# Altium integrated library Linear Technology Power Management LDO Linear Regulators.IntLib: 2339 symbols (part 27 of 131)
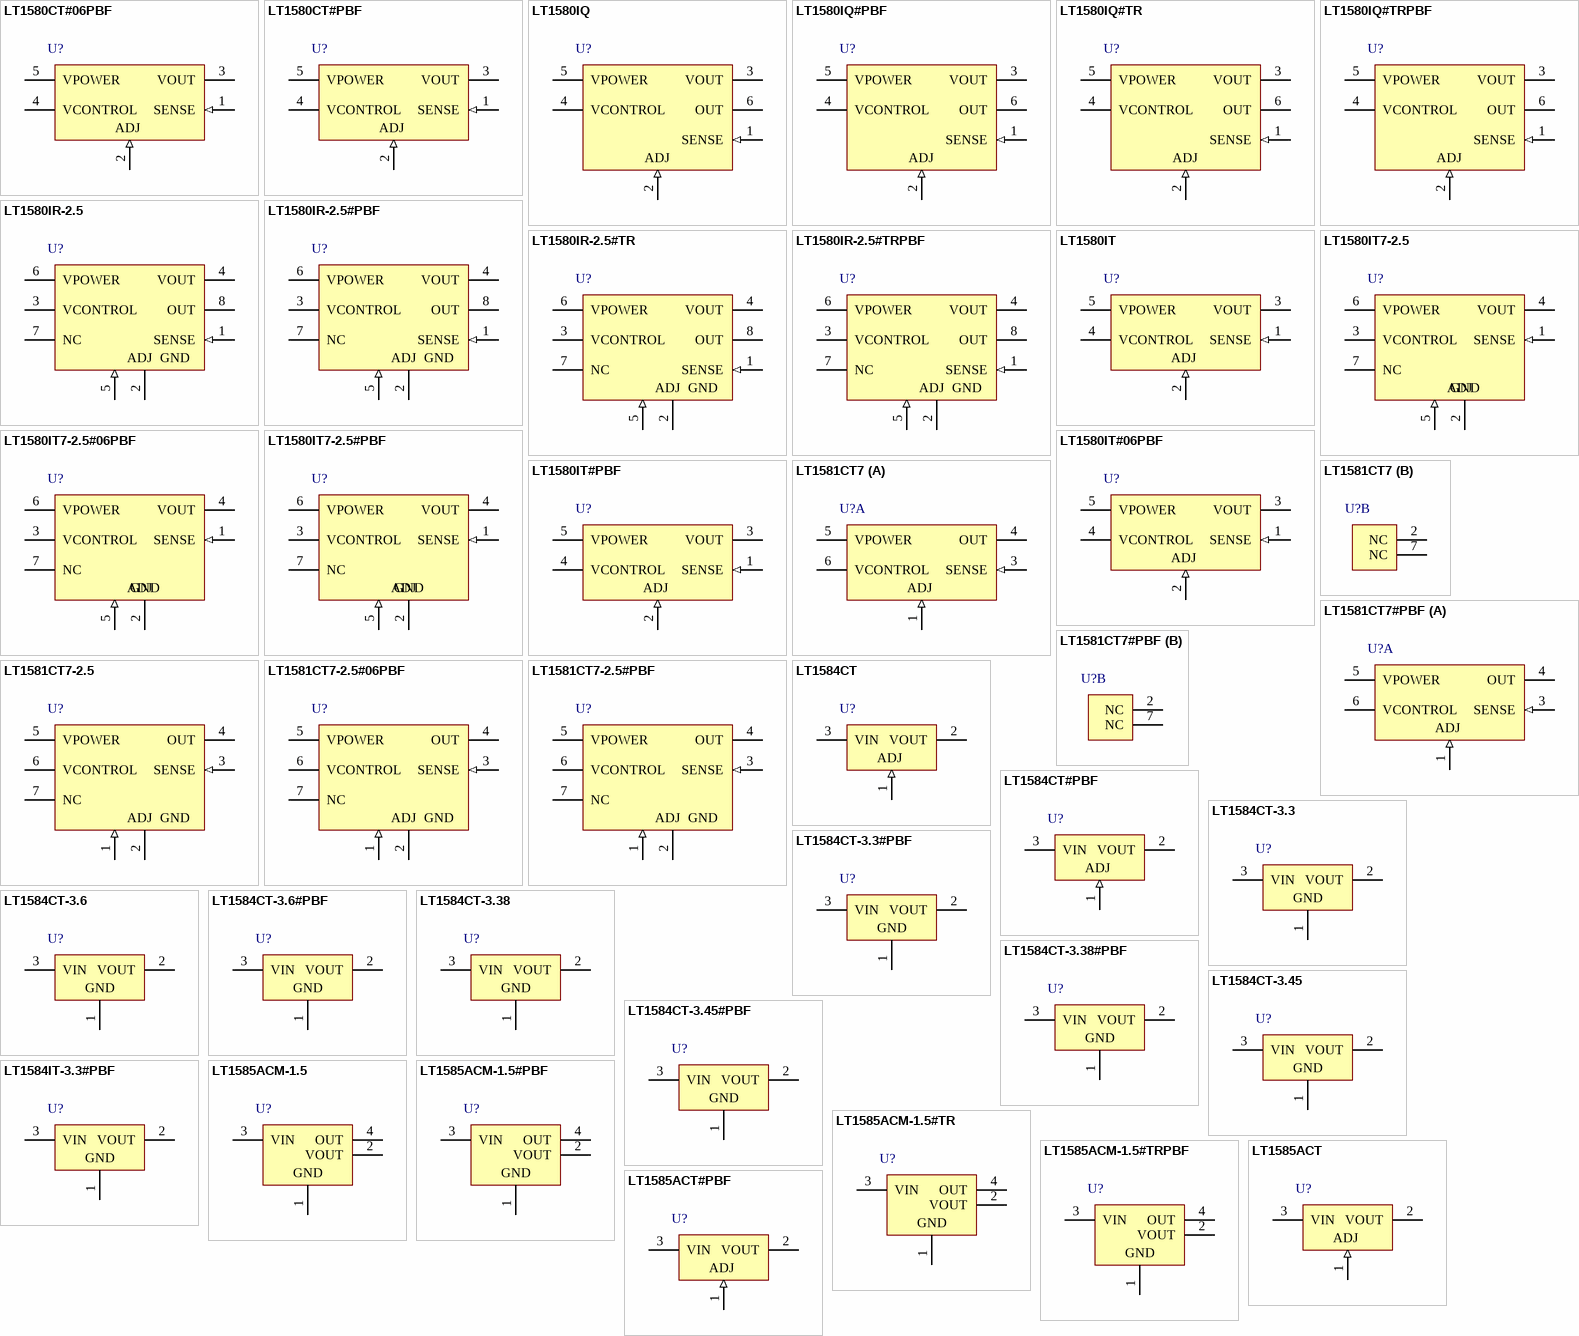
[diagram p95: symbols LT1580CT#06PBF to LT1585ACT#PBF]

## LT1580CT#PBF
designator U?
7 A, Very Low Dropout Regulator, 1.79 to 6 V Vin, Adjustable Vout, 5-pin FM (T-5), 0 to 150 degC, Pb-Free; Manufacturer: Linear Technology; PartNumber: LT1580CT#PBF; Discrete Pass Element: no; Dropout Voltage(V): 0.54; Iout(mA): 7000; Isupply(mA): 10; Number of Outputs: 1; Output Voltage: Adj; Vin Max(V): 6; Vin Min(V): 1.79; Vout Max(V): 4.65; Vout Min(V): 1.25; DatasheetVersion: Rev. A; PackageVersion: Aug-10; PackageReference: T-5; PackageDescription: 5-Pin Plastic TO-220 (Standard), Body 10.224 x 8.89 mm, Pitch 1.7 mm; Supplier 1: Digi-Key; Supplier Part Number 1: LT1580CT#PBF-ND; RoHS: TRUE; Mounting Technology: Through Hole; ComponentLink1Description: Manufacturer URL; ComponentLink1URL: http://www.linear.com/; ComponentLink2Description: Datasheet; ComponentLink2URL: http://cds.linear.com/docs/en/datasheet/158025fas.pdf; ComponentLink3Description: Package Specification; ComponentLink3URL: http://cds.linear.com/docs/en/packaging/TO-220_5_05-08-1421.pdf
footprint LT-T-5-S (FM, 5-Leads, Body 10.2235x4.3815mm, Pitch 1.7mm)
pins: 1 SENSE (in) "This pin is the positive side of the reference voltage for the device. With this pin it is possible to Kelvin sense the output voltage at the load.", 2 ADJ (in) "This pin is the negative side of the reference voltage for the device. Transient response can be improved by adding a small bypass capacitor from the ADJ pin to ground. For fixed voltage devices the ADJ pin is also brought (See Datasheet)", 3 VOUT (power) "This is the power output of the device.", 4 VCONTROL (power) "This pin is the supply pin for the control circuitry of the device. The current flow into this pin will be about 1% of the output current. For the device to regulate, the voltage at this pin must be between 1.0V and 1.3V (See Datasheet)", 5 VPOWER (power) "This is the collector to the power device of the LT1580. The output load current is supplied through this pin. For the device to regulate, the voltage at this pin must be between 0.1V and 0.8V greater than the output voltage (See Datasheet)"

## LT1580IQ
designator U?
7 A, Very Low Dropout Regulator, 1.79 to 6 V Vin, Adjustable Vout, 5-pin DPAK (Q-5), -40 to 150 degC; Manufacturer: Linear Technology; PartNumber: LT1580IQ; Discrete Pass Element: no; Dropout Voltage(V): 0.54; Iout(mA): 7000; Isupply(mA): 10; Number of Outputs: 1; Output Voltage: Adj; Vin Max(V): 6; Vin Min(V): 1.79; Vout Max(V): 4.65; Vout Min(V): 1.25; DatasheetVersion: Rev. A; PackageVersion: Rev. F, 09/2011; PackageReference: Q-5; PackageDescription: 5-Pin Plastic DD Pak, Body 10.2235 x 8.89 mm, Pitch 1.702 mm; Supplier 1: Digi-Key; Supplier Part Number 1: LT1580IQ-ND; Supplier 2: Newark; Supplier Part Number 2: 57M5068; RoHS: FALSE; Mounting Technology: Surface Mount; ComponentLink1Description: Manufacturer URL; ComponentLink1URL: http://www.linear.com/; ComponentLink2Description: Datasheet; ComponentLink2URL: http://cds.linear.com/docs/en/datasheet/158025fas.pdf; ComponentLink3Description: Package Specification; ComponentLink3URL: http://cds.linear.com/docs/en/packaging/Q%20DD5%2005-08-1461%20Rev%20F.pdf
footprint LT-Q-5_N (DPAK, 5-Leads, Body 10.22x8.89mm, Pitch 1.702mm, IPC Medium Density)
footprint LT-Q-5_L (DPAK, 5-Leads, Body 10.22x8.89mm, Pitch 1.702mm, IPC High Density)
footprint LT-Q-5_M (DPAK, 5-Leads, Body 10.22x8.89mm, Pitch 1.702mm, IPC Low Density)
pins: 1 SENSE (in) "This pin is the positive side of the reference voltage for the device. With this pin it is possible to Kelvin sense the output voltage at the load.", 2 ADJ (in) "This pin is the negative side of the reference voltage for the device. Transient response can be improved by adding a small bypass capacitor from the ADJ pin to ground. For fixed voltage devices the ADJ pin is also brought (See Datasheet)", 3 VOUT (power) "This is the power output of the device.", 4 VCONTROL (power) "This pin is the supply pin for the control circuitry of the device. The current flow into this pin will be about 1% of the output current. For the device to regulate, the voltage at this pin must be between 1.0V and 1.3V (See Datasheet)", 5 VPOWER (power) "This is the collector to the power device of the LT1580. The output load current is supplied through this pin. For the device to regulate, the voltage at this pin must be between 0.1V and 0.8V greater than the output voltage (See Datasheet)", 6 OUT (power)

## LT1580IQ#PBF
designator U?
7 A, Very Low Dropout Regulator, 1.79 to 6 V Vin, Adjustable Vout, 5-pin DPAK (Q-5), -40 to 150 degC, Pb-Free; Manufacturer: Linear Technology; PartNumber: LT1580IQ#PBF; Discrete Pass Element: no; Dropout Voltage(V): 0.54; Iout(mA): 7000; Isupply(mA): 10; Number of Outputs: 1; Output Voltage: Adj; Vin Max(V): 6; Vin Min(V): 1.79; Vout Max(V): 4.65; Vout Min(V): 1.25; DatasheetVersion: Rev. A; PackageVersion: Rev. F, 09/2011; PackageReference: Q-5; PackageDescription: 5-Pin Plastic DD Pak, Body 10.2235 x 8.89 mm, Pitch 1.702 mm; Supplier 1: Digi-Key; Supplier Part Number 1: LT1580IQ#PBF-ND; Supplier 2: Newark; Supplier Part Number 2: 57M5069; RoHS: TRUE; Mounting Technology: Surface Mount; ComponentLink1Description: Manufacturer URL; ComponentLink1URL: http://www.linear.com/; ComponentLink2Description: Datasheet; ComponentLink2URL: http://cds.linear.com/docs/en/datasheet/158025fas.pdf; ComponentLink3Description: Package Specification; ComponentLink3URL: http://cds.linear.com/docs/en/packaging/Q%20DD5%2005-08-1461%20Rev%20F.pdf
footprint LT-Q-5_N (DPAK, 5-Leads, Body 10.22x8.89mm, Pitch 1.702mm, IPC Medium Density)
footprint LT-Q-5_L (DPAK, 5-Leads, Body 10.22x8.89mm, Pitch 1.702mm, IPC High Density)
footprint LT-Q-5_M (DPAK, 5-Leads, Body 10.22x8.89mm, Pitch 1.702mm, IPC Low Density)
pins: 1 SENSE (in) "This pin is the positive side of the reference voltage for the device. With this pin it is possible to Kelvin sense the output voltage at the load.", 2 ADJ (in) "This pin is the negative side of the reference voltage for the device. Transient response can be improved by adding a small bypass capacitor from the ADJ pin to ground. For fixed voltage devices the ADJ pin is also brought (See Datasheet)", 3 VOUT (power) "This is the power output of the device.", 4 VCONTROL (power) "This pin is the supply pin for the control circuitry of the device. The current flow into this pin will be about 1% of the output current. For the device to regulate, the voltage at this pin must be between 1.0V and 1.3V (See Datasheet)", 5 VPOWER (power) "This is the collector to the power device of the LT1580. The output load current is supplied through this pin. For the device to regulate, the voltage at this pin must be between 0.1V and 0.8V greater than the output voltage (See Datasheet)", 6 OUT (power)

## LT1580IQ#TR
designator U?
7 A, Very Low Dropout Regulator, 1.79 to 6 V Vin, Adjustable Vout, 5-pin DPAK (Q-5), -40 to 150 degC, Tape and Reel; Manufacturer: Linear Technology; PartNumber: LT1580IQ#TR; Discrete Pass Element: no; Dropout Voltage(V): 0.54; Iout(mA): 7000; Isupply(mA): 10; Number of Outputs: 1; Output Voltage: Adj; Vin Max(V): 6; Vin Min(V): 1.79; Vout Max(V): 4.65; Vout Min(V): 1.25; DatasheetVersion: Rev. A; PackageVersion: Rev. F, 09/2011; PackageReference: Q-5; PackageDescription: 5-Pin Plastic DD Pak, Body 10.2235 x 8.89 mm, Pitch 1.702 mm; Supplier 1: Digi-Key; Supplier Part Number 1: LT1580IQ#TR-ND; Packing: Tape and Reel; RoHS: FALSE; Mounting Technology: Surface Mount; ComponentLink1Description: Manufacturer URL; ComponentLink1URL: http://www.linear.com/; ComponentLink2Description: Datasheet; ComponentLink2URL: http://cds.linear.com/docs/en/datasheet/158025fas.pdf; ComponentLink3Description: Package Specification; ComponentLink3URL: http://cds.linear.com/docs/en/packaging/Q%20DD5%2005-08-1461%20Rev%20F.pdf
footprint LT-Q-5_N (DPAK, 5-Leads, Body 10.22x8.89mm, Pitch 1.702mm, IPC Medium Density)
footprint LT-Q-5_L (DPAK, 5-Leads, Body 10.22x8.89mm, Pitch 1.702mm, IPC High Density)
footprint LT-Q-5_M (DPAK, 5-Leads, Body 10.22x8.89mm, Pitch 1.702mm, IPC Low Density)
pins: 1 SENSE (in) "This pin is the positive side of the reference voltage for the device. With this pin it is possible to Kelvin sense the output voltage at the load.", 2 ADJ (in) "This pin is the negative side of the reference voltage for the device. Transient response can be improved by adding a small bypass capacitor from the ADJ pin to ground. For fixed voltage devices the ADJ pin is also brought (See Datasheet)", 3 VOUT (power) "This is the power output of the device.", 4 VCONTROL (power) "This pin is the supply pin for the control circuitry of the device. The current flow into this pin will be about 1% of the output current. For the device to regulate, the voltage at this pin must be between 1.0V and 1.3V (See Datasheet)", 5 VPOWER (power) "This is the collector to the power device of the LT1580. The output load current is supplied through this pin. For the device to regulate, the voltage at this pin must be between 0.1V and 0.8V greater than the output voltage (See Datasheet)", 6 OUT (power)

## LT1580IQ#TRPBF
designator U?
7 A, Very Low Dropout Regulator, 1.79 to 6 V Vin, Adjustable Vout, 5-pin DPAK (Q-5), -40 to 150 degC, Pb-Free, Tape and Reel; Manufacturer: Linear Technology; PartNumber: LT1580IQ#TRPBF; Discrete Pass Element: no; Dropout Voltage(V): 0.54; Iout(mA): 7000; Isupply(mA): 10; Number of Outputs: 1; Output Voltage: Adj; Vin Max(V): 6; Vin Min(V): 1.79; Vout Max(V): 4.65; Vout Min(V): 1.25; DatasheetVersion: Rev. A; PackageVersion: Rev. F, 09/2011; PackageReference: Q-5; PackageDescription: 5-Pin Plastic DD Pak, Body 10.2235 x 8.89 mm, Pitch 1.702 mm; Supplier 1: Digi-Key; Supplier Part Number 1: LT1580IQ#TRPBF-ND; Packing: Tape and Reel; RoHS: TRUE; Mounting Technology: Surface Mount; ComponentLink1Description: Manufacturer URL; ComponentLink1URL: http://www.linear.com/; ComponentLink2Description: Datasheet; ComponentLink2URL: http://cds.linear.com/docs/en/datasheet/158025fas.pdf; ComponentLink3Description: Package Specification; ComponentLink3URL: http://cds.linear.com/docs/en/packaging/Q%20DD5%2005-08-1461%20Rev%20F.pdf
footprint LT-Q-5_N (DPAK, 5-Leads, Body 10.22x8.89mm, Pitch 1.702mm, IPC Medium Density)
footprint LT-Q-5_L (DPAK, 5-Leads, Body 10.22x8.89mm, Pitch 1.702mm, IPC High Density)
footprint LT-Q-5_M (DPAK, 5-Leads, Body 10.22x8.89mm, Pitch 1.702mm, IPC Low Density)
pins: 1 SENSE (in) "This pin is the positive side of the reference voltage for the device. With this pin it is possible to Kelvin sense the output voltage at the load.", 2 ADJ (in) "This pin is the negative side of the reference voltage for the device. Transient response can be improved by adding a small bypass capacitor from the ADJ pin to ground. For fixed voltage devices the ADJ pin is also brought (See Datasheet)", 3 VOUT (power) "This is the power output of the device.", 4 VCONTROL (power) "This pin is the supply pin for the control circuitry of the device. The current flow into this pin will be about 1% of the output current. For the device to regulate, the voltage at this pin must be between 1.0V and 1.3V (See Datasheet)", 5 VPOWER (power) "This is the collector to the power device of the LT1580. The output load current is supplied through this pin. For the device to regulate, the voltage at this pin must be between 0.1V and 0.8V greater than the output voltage (See Datasheet)", 6 OUT (power)

## LT1580IR-2.5
designator U?
7 A, Very Low Dropout Regulator, 1.79 to 6 V Vin, 2.5 V Vout, 7-pin DPAK (R-7), -40 to 150 degC; Manufacturer: Linear Technology; PartNumber: LT1580IR-2.5; Discrete Pass Element: no; Dropout Voltage(V): 0.54; Iout(mA): 7000; Isupply(mA): 10; Number of Outputs: 1; Output Voltage: 2.5 V; Vin Max(V): 6; Vin Min(V): 1.79; DatasheetVersion: Rev. A; PackageVersion: Rev. F, 05/2012; PackageReference: R-7; PackageDescription: 7-Pin Plastic DD Pak, Body 10.2235 x 8.89 mm, Pitch 1.27 mm; Supplier 1: Digi-Key; Supplier Part Number 1: LT1580IR-2.5-ND; Supplier 2: Newark; Supplier Part Number 2: 57M5072; RoHS: FALSE; Mounting Technology: Surface Mount; ComponentLink1Description: Manufacturer URL; ComponentLink1URL: http://www.linear.com/; ComponentLink2Description: Datasheet; ComponentLink2URL: http://cds.linear.com/docs/en/datasheet/158025fas.pdf; ComponentLink3Description: Package Specification; ComponentLink3URL: http://cds.linear.com/docs/en/packaging/05081462_F_R.pdf
footprint LT-R-7_N (DPAK, 7-Leads, Body 10.224x8.89mm, Pitch 1.27mm, IPC Medium Density)
footprint LT-R-7_L (DPAK, 7-Leads, Body 10.224x8.89mm, Pitch 1.27mm, IPC High Density)
footprint LT-R-7_M (DPAK, 7-Leads, Body 10.224x8.89mm, Pitch 1.27mm, IPC Low Density)
pins: 1 SENSE (in) "This pin is the positive side of the reference voltage for the device. With this pin it is possible to Kelvin sense the output voltage at the load.", 2 GND (power) "For fixed voltage devices this is the bottom of the resistor divider that sets the output voltage.", 3 VCONTROL (power) "This pin is the supply pin for the control circuitry of the device. The current flow into this pin will be about 1% of the output current. For the device to regulate, the voltage at this pin must be between 1.0V and 1.3V (See Datasheet)", 4 VOUT (power) "This is the power output of the device.", 5 ADJ (in) "This pin is the negative side of the reference voltage for the device. Transient response can be improved by adding a small bypass capacitor from the ADJ pin to ground. For fixed voltage devices the ADJ pin is also brought (See Datasheet)", 6 VPOWER (power) "This is the collector to the power device of the LT1580. The output load current is supplied through this pin. For the device to regulate, the voltage at this pin must be between 0.1V and 0.8V greater than the output voltage (See Datasheet)", 7 NC, 8 OUT (power)

## LT1580IR-2.5#PBF
designator U?
7 A, Very Low Dropout Regulator, 1.79 to 6 V Vin, 2.5 V Vout, 7-pin DPAK (R-7), -40 to 150 degC, Pb-Free; Manufacturer: Linear Technology; PartNumber: LT1580IR-2.5#PBF; Discrete Pass Element: no; Dropout Voltage(V): 0.54; Iout(mA): 7000; Isupply(mA): 10; Number of Outputs: 1; Output Voltage: 2.5 V; Vin Max(V): 6; Vin Min(V): 1.79; DatasheetVersion: Rev. A; PackageVersion: Rev. F, 05/2012; PackageReference: R-7; PackageDescription: 7-Pin Plastic DD Pak, Body 10.2235 x 8.89 mm, Pitch 1.27 mm; Supplier 1: Digi-Key; Supplier Part Number 1: LT1580IR-2.5#PBF-ND; Supplier 2: Farnell; Supplier Part Number 2: 2252782; Supplier 3: Newark; Supplier Part Number 3: 57M5073; RoHS: TRUE; Mounting Technology: Surface Mount; ComponentLink1Description: Manufacturer URL; ComponentLink1URL: http://www.linear.com/; ComponentLink2Description: Datasheet; ComponentLink2URL: http://cds.linear.com/docs/en/datasheet/158025fas.pdf; ComponentLink3Description: Package Specification; ComponentLink3URL: http://cds.linear.com/docs/en/packaging/05081462_F_R.pdf
footprint LT-R-7_N (DPAK, 7-Leads, Body 10.224x8.89mm, Pitch 1.27mm, IPC Medium Density)
footprint LT-R-7_L (DPAK, 7-Leads, Body 10.224x8.89mm, Pitch 1.27mm, IPC High Density)
footprint LT-R-7_M (DPAK, 7-Leads, Body 10.224x8.89mm, Pitch 1.27mm, IPC Low Density)
pins: 1 SENSE (in) "This pin is the positive side of the reference voltage for the device. With this pin it is possible to Kelvin sense the output voltage at the load.", 2 GND (power) "For fixed voltage devices this is the bottom of the resistor divider that sets the output voltage.", 3 VCONTROL (power) "This pin is the supply pin for the control circuitry of the device. The current flow into this pin will be about 1% of the output current. For the device to regulate, the voltage at this pin must be between 1.0V and 1.3V (See Datasheet)", 4 VOUT (power) "This is the power output of the device.", 5 ADJ (in) "This pin is the negative side of the reference voltage for the device. Transient response can be improved by adding a small bypass capacitor from the ADJ pin to ground. For fixed voltage devices the ADJ pin is also brought (See Datasheet)", 6 VPOWER (power) "This is the collector to the power device of the LT1580. The output load current is supplied through this pin. For the device to regulate, the voltage at this pin must be between 0.1V and 0.8V greater than the output voltage (See Datasheet)", 7 NC, 8 OUT (power)

## LT1580IR-2.5#TR
designator U?
7 A, Very Low Dropout Regulator, 1.79 to 6 V Vin, 2.5 V Vout, 7-pin DPAK (R-7), -40 to 150 degC, Tape and Reel; Manufacturer: Linear Technology; PartNumber: LT1580IR-2.5#TR; Discrete Pass Element: no; Dropout Voltage(V): 0.54; Iout(mA): 7000; Isupply(mA): 10; Number of Outputs: 1; Output Voltage: 2.5 V; Vin Max(V): 6; Vin Min(V): 1.79; DatasheetVersion: Rev. A; PackageVersion: Rev. F, 05/2012; PackageReference: R-7; PackageDescription: 7-Pin Plastic DD Pak, Body 10.2235 x 8.89 mm, Pitch 1.27 mm; Supplier 1: Digi-Key; Supplier Part Number 1: LT1580IR-2.5#TR-ND; Packing: Tape and Reel; RoHS: FALSE; Mounting Technology: Surface Mount; ComponentLink1Description: Manufacturer URL; ComponentLink1URL: http://www.linear.com/; ComponentLink2Description: Datasheet; ComponentLink2URL: http://cds.linear.com/docs/en/datasheet/158025fas.pdf; ComponentLink3Description: Package Specification; ComponentLink3URL: http://cds.linear.com/docs/en/packaging/05081462_F_R.pdf
footprint LT-R-7_N (DPAK, 7-Leads, Body 10.224x8.89mm, Pitch 1.27mm, IPC Medium Density)
footprint LT-R-7_L (DPAK, 7-Leads, Body 10.224x8.89mm, Pitch 1.27mm, IPC High Density)
footprint LT-R-7_M (DPAK, 7-Leads, Body 10.224x8.89mm, Pitch 1.27mm, IPC Low Density)
pins: 1 SENSE (in) "This pin is the positive side of the reference voltage for the device. With this pin it is possible to Kelvin sense the output voltage at the load.", 2 GND (power) "For fixed voltage devices this is the bottom of the resistor divider that sets the output voltage.", 3 VCONTROL (power) "This pin is the supply pin for the control circuitry of the device. The current flow into this pin will be about 1% of the output current. For the device to regulate, the voltage at this pin must be between 1.0V and 1.3V (See Datasheet)", 4 VOUT (power) "This is the power output of the device.", 5 ADJ (in) "This pin is the negative side of the reference voltage for the device. Transient response can be improved by adding a small bypass capacitor from the ADJ pin to ground. For fixed voltage devices the ADJ pin is also brought (See Datasheet)", 6 VPOWER (power) "This is the collector to the power device of the LT1580. The output load current is supplied through this pin. For the device to regulate, the voltage at this pin must be between 0.1V and 0.8V greater than the output voltage (See Datasheet)", 7 NC, 8 OUT (power)

## LT1580IR-2.5#TRPBF
designator U?
7 A, Very Low Dropout Regulator, 1.79 to 6 V Vin, 2.5 V Vout, 7-pin DPAK (R-7), -40 to 150 degC, Pb-Free, Tape and Reel; Manufacturer: Linear Technology; PartNumber: LT1580IR-2.5#TRPBF; Discrete Pass Element: no; Dropout Voltage(V): 0.54; Iout(mA): 7000; Isupply(mA): 10; Number of Outputs: 1; Output Voltage: 2.5 V; Vin Max(V): 6; Vin Min(V): 1.79; DatasheetVersion: Rev. A; PackageVersion: Rev. F, 05/2012; PackageReference: R-7; PackageDescription: 7-Pin Plastic DD Pak, Body 10.2235 x 8.89 mm, Pitch 1.27 mm; Supplier 1: Digi-Key; Supplier Part Number 1: LT1580IR-2.5#TRPBF-ND; Packing: Tape and Reel; RoHS: TRUE; Mounting Technology: Surface Mount; ComponentLink1Description: Manufacturer URL; ComponentLink1URL: http://www.linear.com/; ComponentLink2Description: Datasheet; ComponentLink2URL: http://cds.linear.com/docs/en/datasheet/158025fas.pdf; ComponentLink3Description: Package Specification; ComponentLink3URL: http://cds.linear.com/docs/en/packaging/05081462_F_R.pdf
footprint LT-R-7_N (DPAK, 7-Leads, Body 10.224x8.89mm, Pitch 1.27mm, IPC Medium Density)
footprint LT-R-7_L (DPAK, 7-Leads, Body 10.224x8.89mm, Pitch 1.27mm, IPC High Density)
footprint LT-R-7_M (DPAK, 7-Leads, Body 10.224x8.89mm, Pitch 1.27mm, IPC Low Density)
pins: 1 SENSE (in) "This pin is the positive side of the reference voltage for the device. With this pin it is possible to Kelvin sense the output voltage at the load.", 2 GND (power) "For fixed voltage devices this is the bottom of the resistor divider that sets the output voltage.", 3 VCONTROL (power) "This pin is the supply pin for the control circuitry of the device. The current flow into this pin will be about 1% of the output current. For the device to regulate, the voltage at this pin must be between 1.0V and 1.3V (See Datasheet)", 4 VOUT (power) "This is the power output of the device.", 5 ADJ (in) "This pin is the negative side of the reference voltage for the device. Transient response can be improved by adding a small bypass capacitor from the ADJ pin to ground. For fixed voltage devices the ADJ pin is also brought (See Datasheet)", 6 VPOWER (power) "This is the collector to the power device of the LT1580. The output load current is supplied through this pin. For the device to regulate, the voltage at this pin must be between 0.1V and 0.8V greater than the output voltage (See Datasheet)", 7 NC, 8 OUT (power)

## LT1580IT
designator U?
7 A, Very Low Dropout Regulator, 1.79 to 6 V Vin, Adjustable Vout, 5-pin FM (T-5), -40 to 150 degC; Manufacturer: Linear Technology; PartNumber: LT1580IT; Discrete Pass Element: no; Dropout Voltage(V): 0.54; Iout(mA): 7000; Isupply(mA): 10; Number of Outputs: 1; Output Voltage: Adj; Vin Max(V): 6; Vin Min(V): 1.79; Vout Max(V): 4.65; Vout Min(V): 1.25; DatasheetVersion: Rev. A; PackageVersion: Aug-10; PackageReference: T-5; PackageDescription: 5-Pin Plastic TO-220 (Standard), Body 10.224 x 8.89 mm, Pitch 1.7 mm; Supplier 1: Digi-Key; Supplier Part Number 1: LT1580IT-ND; RoHS: FALSE; Mounting Technology: Through Hole; ComponentLink1Description: Manufacturer URL; ComponentLink1URL: http://www.linear.com/; ComponentLink2Description: Datasheet; ComponentLink2URL: http://cds.linear.com/docs/en/datasheet/158025fas.pdf; ComponentLink3Description: Package Specification; ComponentLink3URL: http://cds.linear.com/docs/en/packaging/TO-220_5_05-08-1421.pdf
footprint LT-T-5-S (FM, 5-Leads, Body 10.2235x4.3815mm, Pitch 1.7mm)
pins: 1 SENSE (in) "This pin is the positive side of the reference voltage for the device. With this pin it is possible to Kelvin sense the output voltage at the load.", 2 ADJ (in) "This pin is the negative side of the reference voltage for the device. Transient response can be improved by adding a small bypass capacitor from the ADJ pin to ground. For fixed voltage devices the ADJ pin is also brought (See Datasheet)", 3 VOUT (power) "This is the power output of the device.", 4 VCONTROL (power) "This pin is the supply pin for the control circuitry of the device. The current flow into this pin will be about 1% of the output current. For the device to regulate, the voltage at this pin must be between 1.0V and 1.3V (See Datasheet)", 5 VPOWER (power) "This is the collector to the power device of the LT1580. The output load current is supplied through this pin. For the device to regulate, the voltage at this pin must be between 0.1V and 0.8V greater than the output voltage (See Datasheet)"

## LT1580IT7-2.5
designator U?
7 A, Very Low Dropout Regulator, 1.79 to 6 V Vin, 2.5 V Vout, 7-pin FM (T7-7), -40 to 150 degC; Manufacturer: Linear Technology; PartNumber: LT1580IT7-2.5; Discrete Pass Element: no; Dropout Voltage(V): 0.54; Iout(mA): 7000; Isupply(mA): 10; Number of Outputs: 1; Output Voltage: 2.5 V; Vin Max(V): 6; Vin Min(V): 1.79; DatasheetVersion: Rev. A; PackageVersion: Jun-10; PackageReference: T7-7; PackageDescription: 7-Pin Plastic TO-220 (Straight Lead), Body 10.224 x 4.382 mm, Pitch 1.27 mm; Supplier 1: Digi-Key; Supplier Part Number 1: LT1580IT7-2.5-ND; RoHS: FALSE; Mounting Technology: Through Hole; ComponentLink1Description: Manufacturer URL; ComponentLink1URL: http://www.linear.com/; ComponentLink2Description: Datasheet; ComponentLink2URL: http://cds.linear.com/docs/en/datasheet/158025fas.pdf; ComponentLink3Description: Package Specification; ComponentLink3URL: http://www.linear.com/docs/en/packaging/TO-220_7_05-08-1422_STRAIGHT_LEAD.pdf
footprint LT-T7-7-S_V (FM, 7-Leads, Body 10.55x4.6mm, Pitch 1.27mm)
pins: 1 SENSE (in) "This pin is the positive side of the reference voltage for the device. With this pin it is possible to Kelvin sense the output voltage at the load.", 2 GND (power) "For fixed voltage devices this is the bottom of the resistor divider that sets the output voltage.", 3 VCONTROL (power) "This pin is the supply pin for the control circuitry of the device. The current flow into this pin will be about 1% of the output current. For the device to regulate, the voltage at this pin must be between 1.0V and 1.3V (See Datasheet)", 4 VOUT (power) "This is the power output of the device.", 5 ADJ (in) "This pin is the negative side of the reference voltage for the device. Transient response can be improved by adding a small bypass capacitor from the ADJ pin to ground. For fixed voltage devices the ADJ pin is also brought (See Datasheet)", 6 VPOWER (power) "This is the collector to the power device of the LT1580. The output load current is supplied through this pin. For the device to regulate, the voltage at this pin must be between 0.1V and 0.8V greater than the output voltage (See Datasheet)", 7 NC

## LT1580IT7-2.5#06PBF
designator U?
7 A, Very Low Dropout Regulator, 1.79 to 6 V Vin, 2.5 V Vout, 7-pin FM (T7-7), -40 to 150 degC, Pb-Free; Manufacturer: Linear Technology; PartNumber: LT1580IT7-2.5#06PBF; Discrete Pass Element: no; Dropout Voltage(V): 0.54; Iout(mA): 7000; Isupply(mA): 10; Number of Outputs: 1; Output Voltage: 2.5 V; Vin Max(V): 6; Vin Min(V): 1.79; DatasheetVersion: Rev. A; PackageVersion: Jun-10; PackageReference: T7-7; PackageDescription: 7-Pin Plastic TO-220 (Straight Lead), Body 10.224 x 4.382 mm, Pitch 1.27 mm; Supplier 1: Digi-Key; Supplier Part Number 1: LT1580IT7-2.5#06PBF-ND; RoHS: TRUE; Mounting Technology: Through Hole; ComponentLink1Description: Manufacturer URL; ComponentLink1URL: http://www.linear.com/; ComponentLink2Description: Datasheet; ComponentLink2URL: http://cds.linear.com/docs/en/datasheet/158025fas.pdf; ComponentLink3Description: Package Specification; ComponentLink3URL: http://www.linear.com/docs/en/packaging/TO-220_7_05-08-1422_STRAIGHT_LEAD.pdf
footprint LT-T7-7-S_V (FM, 7-Leads, Body 10.55x4.6mm, Pitch 1.27mm)
pins: 1 SENSE (in) "This pin is the positive side of the reference voltage for the device. With this pin it is possible to Kelvin sense the output voltage at the load.", 2 GND (power) "For fixed voltage devices this is the bottom of the resistor divider that sets the output voltage.", 3 VCONTROL (power) "This pin is the supply pin for the control circuitry of the device. The current flow into this pin will be about 1% of the output current. For the device to regulate, the voltage at this pin must be between 1.0V and 1.3V (See Datasheet)", 4 VOUT (power) "This is the power output of the device.", 5 ADJ (in) "This pin is the negative side of the reference voltage for the device. Transient response can be improved by adding a small bypass capacitor from the ADJ pin to ground. For fixed voltage devices the ADJ pin is also brought (See Datasheet)", 6 VPOWER (power) "This is the collector to the power device of the LT1580. The output load current is supplied through this pin. For the device to regulate, the voltage at this pin must be between 0.1V and 0.8V greater than the output voltage (See Datasheet)", 7 NC

## LT1580IT7-2.5#PBF
designator U?
7 A, Very Low Dropout Regulator, 1.79 to 6 V Vin, 2.5 V Vout, 7-pin FM (T7-7), -40 to 150 degC, Pb-Free; Manufacturer: Linear Technology; PartNumber: LT1580IT7-2.5#PBF; Discrete Pass Element: no; Dropout Voltage(V): 0.54; Iout(mA): 7000; Isupply(mA): 10; Number of Outputs: 1; Output Voltage: 2.5 V; Vin Max(V): 6; Vin Min(V): 1.79; DatasheetVersion: Rev. A; PackageVersion: Jun-10; PackageReference: T7-7; PackageDescription: 7-Pin Plastic TO-220 (Straight Lead), Body 10.224 x 4.382 mm, Pitch 1.27 mm; Supplier 1: Digi-Key; Supplier Part Number 1: LT1580IT7-2.5#PBF-ND; RoHS: TRUE; Mounting Technology: Through Hole; ComponentLink1Description: Manufacturer URL; ComponentLink1URL: http://www.linear.com/; ComponentLink2Description: Datasheet; ComponentLink2URL: http://cds.linear.com/docs/en/datasheet/158025fas.pdf; ComponentLink3Description: Package Specification; ComponentLink3URL: http://www.linear.com/docs/en/packaging/TO-220_7_05-08-1422_STRAIGHT_LEAD.pdf
footprint LT-T7-7-S_V (FM, 7-Leads, Body 10.55x4.6mm, Pitch 1.27mm)
pins: 1 SENSE (in) "This pin is the positive side of the reference voltage for the device. With this pin it is possible to Kelvin sense the output voltage at the load.", 2 GND (power) "For fixed voltage devices this is the bottom of the resistor divider that sets the output voltage.", 3 VCONTROL (power) "This pin is the supply pin for the control circuitry of the device. The current flow into this pin will be about 1% of the output current. For the device to regulate, the voltage at this pin must be between 1.0V and 1.3V (See Datasheet)", 4 VOUT (power) "This is the power output of the device.", 5 ADJ (in) "This pin is the negative side of the reference voltage for the device. Transient response can be improved by adding a small bypass capacitor from the ADJ pin to ground. For fixed voltage devices the ADJ pin is also brought (See Datasheet)", 6 VPOWER (power) "This is the collector to the power device of the LT1580. The output load current is supplied through this pin. For the device to regulate, the voltage at this pin must be between 0.1V and 0.8V greater than the output voltage (See Datasheet)", 7 NC

## LT1580IT#06PBF
designator U?
7 A, Very Low Dropout Regulator, 1.79 to 6 V Vin, Adjustable Vout, 5-pin FM (T-5), -40 to 150 degC, Pb-Free; Manufacturer: Linear Technology; PartNumber: LT1580IT#06PBF; Discrete Pass Element: no; Dropout Voltage(V): 0.54; Iout(mA): 7000; Isupply(mA): 10; Number of Outputs: 1; Output Voltage: Adj; Vin Max(V): 6; Vin Min(V): 1.79; Vout Max(V): 4.65; Vout Min(V): 1.25; DatasheetVersion: Rev. A; PackageVersion: Aug-10; PackageReference: T-5; PackageDescription: 5-Pin Plastic TO-220 (Standard), Body 10.224 x 8.89 mm, Pitch 1.7 mm; Supplier 1: Digi-Key; Supplier Part Number 1: LT1580IT#06PBF-ND; RoHS: TRUE; Mounting Technology: Through Hole; ComponentLink1Description: Manufacturer URL; ComponentLink1URL: http://www.linear.com/; ComponentLink2Description: Datasheet; ComponentLink2URL: http://cds.linear.com/docs/en/datasheet/158025fas.pdf; ComponentLink3Description: Package Specification; ComponentLink3URL: http://cds.linear.com/docs/en/packaging/TO-220_5_05-08-1421.pdf
footprint LT-T-5-S (FM, 5-Leads, Body 10.2235x4.3815mm, Pitch 1.7mm)
pins: 1 SENSE (in) "This pin is the positive side of the reference voltage for the device. With this pin it is possible to Kelvin sense the output voltage at the load.", 2 ADJ (in) "This pin is the negative side of the reference voltage for the device. Transient response can be improved by adding a small bypass capacitor from the ADJ pin to ground. For fixed voltage devices the ADJ pin is also brought (See Datasheet)", 3 VOUT (power) "This is the power output of the device.", 4 VCONTROL (power) "This pin is the supply pin for the control circuitry of the device. The current flow into this pin will be about 1% of the output current. For the device to regulate, the voltage at this pin must be between 1.0V and 1.3V (See Datasheet)", 5 VPOWER (power) "This is the collector to the power device of the LT1580. The output load current is supplied through this pin. For the device to regulate, the voltage at this pin must be between 0.1V and 0.8V greater than the output voltage (See Datasheet)"

## LT1580IT#PBF
designator U?
7 A, Very Low Dropout Regulator, 1.79 to 6 V Vin, Adjustable Vout, 5-pin FM (T-5), -40 to 150 degC, Pb-Free; Manufacturer: Linear Technology; PartNumber: LT1580IT#PBF; Discrete Pass Element: no; Dropout Voltage(V): 0.54; Iout(mA): 7000; Isupply(mA): 10; Number of Outputs: 1; Output Voltage: Adj; Vin Max(V): 6; Vin Min(V): 1.79; Vout Max(V): 4.65; Vout Min(V): 1.25; DatasheetVersion: Rev. A; PackageVersion: Aug-10; PackageReference: T-5; PackageDescription: 5-Pin Plastic TO-220 (Standard), Body 10.224 x 8.89 mm, Pitch 1.7 mm; Supplier 1: Digi-Key; Supplier Part Number 1: LT1580IT#PBF-ND; RoHS: TRUE; Mounting Technology: Through Hole; ComponentLink1Description: Manufacturer URL; ComponentLink1URL: http://www.linear.com/; ComponentLink2Description: Datasheet; ComponentLink2URL: http://cds.linear.com/docs/en/datasheet/158025fas.pdf; ComponentLink3Description: Package Specification; ComponentLink3URL: http://cds.linear.com/docs/en/packaging/TO-220_5_05-08-1421.pdf
footprint LT-T-5-S (FM, 5-Leads, Body 10.2235x4.3815mm, Pitch 1.7mm)
pins: 1 SENSE (in) "This pin is the positive side of the reference voltage for the device. With this pin it is possible to Kelvin sense the output voltage at the load.", 2 ADJ (in) "This pin is the negative side of the reference voltage for the device. Transient response can be improved by adding a small bypass capacitor from the ADJ pin to ground. For fixed voltage devices the ADJ pin is also brought (See Datasheet)", 3 VOUT (power) "This is the power output of the device.", 4 VCONTROL (power) "This pin is the supply pin for the control circuitry of the device. The current flow into this pin will be about 1% of the output current. For the device to regulate, the voltage at this pin must be between 1.0V and 1.3V (See Datasheet)", 5 VPOWER (power) "This is the collector to the power device of the LT1580. The output load current is supplied through this pin. For the device to regulate, the voltage at this pin must be between 0.1V and 0.8V greater than the output voltage (See Datasheet)"

## LT1581CT7
designator U?
10 A, Very Low Dropout Regulator, 1.68 to 6 V Vin, Adjustable Vout, 7-pin FM (T7-7), 0 to 150 degC; Manufacturer: Linear Technology; PartNumber: LT1581CT7; Discrete Pass Element: no; Dropout Voltage(V): 0.43; Iout(mA): 10000; Isupply(mA): 10; Number of Outputs: 1; Output Voltage: Adj; Vin Max(V): 6; Vin Min(V): 1.68; Vout Max(V): 4.65; Vout Min(V): 1.25; DatasheetVersion: Rev. A; PackageVersion: Jun-10; PackageReference: T7-7; PackageDescription: 7-Pin Plastic TO-220 (Straight Lead), Body 10.224 x 4.382 mm, Pitch 1.27 mm; Supplier 1: Digi-Key; Supplier Part Number 1: LT1581CT7-ND; RoHS: FALSE; Mounting Technology: Through Hole; ComponentLink1Description: Manufacturer URL; ComponentLink1URL: http://www.linear.com/; ComponentLink2Description: Datasheet; ComponentLink2URL: http://cds.linear.com/docs/en/datasheet/158125fa.pdf; ComponentLink3Description: Package Specification; ComponentLink3URL: http://www.linear.com/docs/en/packaging/TO-220_7_05-08-1422_STRAIGHT_LEAD.pdf
footprint LT-T7-7-S_V (FM, 7-Leads, Body 10.55x4.6mm, Pitch 1.27mm)
part A pins: 1 ADJ (in) "This pin is the negative side of the reference voltage for the device. Transient response can be improved by adding a small bypass capacitor from the ADJUST pin to ground. For fixed voltage devices the ADJUST pin is also (See Datasheet)", 3 SENSE (in) "This pin is the positive side of the reference voltage for the device. With this pin it is possible to Kelvin sense the output voltage at the load.", 4 OUT (power) "This is the power output of the device.", 5 VPOWER (power) "This is the collector to the power device of the LT1581. The output load current is supplied through this pin. For the device to regulate, the voltage at this pin must be between 0.1V and 0.7V greater than the output voltage (See Datasheet)", 6 VCONTROL (power) "This pin is the supply pin for the control circuitry of the device. The current flow into this pin will be about 1% of the output current. For the device to regulate, the voltage at this pin must be between 1.0V and 1.35V (See Datasheet)"
part B pins: 2 NC, 7 NC

## LT1581CT7#PBF
designator U?
10 A, Very Low Dropout Regulator, 1.68 to 6 V Vin, Adjustable Vout, 7-pin FM (T7-7), 0 to 150 degC, Pb-Free; Manufacturer: Linear Technology; PartNumber: LT1581CT7#PBF; Discrete Pass Element: no; Dropout Voltage(V): 0.43; Iout(mA): 10000; Isupply(mA): 10; Number of Outputs: 1; Output Voltage: Adj; Vin Max(V): 6; Vin Min(V): 1.68; Vout Max(V): 4.65; Vout Min(V): 1.25; DatasheetVersion: Rev. A; PackageVersion: Jun-10; PackageReference: T7-7; PackageDescription: 7-Pin Plastic TO-220 (Straight Lead), Body 10.224 x 4.382 mm, Pitch 1.27 mm; Supplier 1: Digi-Key; Supplier Part Number 1: LT1581CT7#PBF-ND; Supplier 2: Newark; Supplier Part Number 2: 57M5086; RoHS: TRUE; Mounting Technology: Through Hole; ComponentLink1Description: Manufacturer URL; ComponentLink1URL: http://www.linear.com/; ComponentLink2Description: Datasheet; ComponentLink2URL: http://cds.linear.com/docs/en/datasheet/158125fa.pdf; ComponentLink3Description: Package Specification; ComponentLink3URL: http://www.linear.com/docs/en/packaging/TO-220_7_05-08-1422_STRAIGHT_LEAD.pdf
footprint LT-T7-7-S_V (FM, 7-Leads, Body 10.55x4.6mm, Pitch 1.27mm)
part A pins: 1 ADJ (in) "This pin is the negative side of the reference voltage for the device. Transient response can be improved by adding a small bypass capacitor from the ADJUST pin to ground. For fixed voltage devices the ADJUST pin is also (See Datasheet)", 3 SENSE (in) "This pin is the positive side of the reference voltage for the device. With this pin it is possible to Kelvin sense the output voltage at the load.", 4 OUT (power) "This is the power output of the device.", 5 VPOWER (power) "This is the collector to the power device of the LT1581. The output load current is supplied through this pin. For the device to regulate, the voltage at this pin must be between 0.1V and 0.7V greater than the output voltage (See Datasheet)", 6 VCONTROL (power) "This pin is the supply pin for the control circuitry of the device. The current flow into this pin will be about 1% of the output current. For the device to regulate, the voltage at this pin must be between 1.0V and 1.35V (See Datasheet)"
part B pins: 2 NC, 7 NC

## LT1581CT7-2.5
designator U?
10 A, Very Low Dropout Regulator, 1.68 to 6 V Vin, 2.5 V Vout, 7-pin FM (T7-7), 0 to 150 degC; Manufacturer: Linear Technology; PartNumber: LT1581CT7-2.5; Discrete Pass Element: no; Dropout Voltage(V): 0.43; Iout(mA): 10000; Isupply(mA): 10; Number of Outputs: 1; Output Voltage: 2.5 V; Vin Max(V): 6; Vin Min(V): 1.68; DatasheetVersion: Rev. A; PackageVersion: Jun-10; PackageReference: T7-7; PackageDescription: 7-Pin Plastic TO-220 (Straight Lead), Body 10.224 x 4.382 mm, Pitch 1.27 mm; Supplier 1: Digi-Key; Supplier Part Number 1: LT1581CT7-2.5-ND; RoHS: FALSE; Mounting Technology: Through Hole; ComponentLink1Description: Manufacturer URL; ComponentLink1URL: http://www.linear.com/; ComponentLink2Description: Datasheet; ComponentLink2URL: http://cds.linear.com/docs/en/datasheet/158125fa.pdf; ComponentLink3Description: Package Specification; ComponentLink3URL: http://www.linear.com/docs/en/packaging/TO-220_7_05-08-1422_STRAIGHT_LEAD.pdf
footprint LT-T7-7-S_V (FM, 7-Leads, Body 10.55x4.6mm, Pitch 1.27mm)
pins: 1 ADJ (in) "This pin is the negative side of the reference voltage for the device. Transient response can be improved by adding a small bypass capacitor from the ADJUST pin to ground. For fixed voltage devices the ADJUST pin is also (See Datasheet)", 2 GND (power) "For fixed voltage devices this is the bottom of the resistor divider that sets the output voltage.", 3 SENSE (in) "This pin is the positive side of the reference voltage for the device. With this pin it is possible to Kelvin sense the output voltage at the load.", 4 OUT (power) "This is the power output of the device.", 5 VPOWER (power) "This is the collector to the power device of the LT1581. The output load current is supplied through this pin. For the device to regulate, the voltage at this pin must be between 0.1V and 0.7V greater than the output voltage (See Datasheet)", 6 VCONTROL (power) "This pin is the supply pin for the control circuitry of the device. The current flow into this pin will be about 1% of the output current. For the device to regulate, the voltage at this pin must be between 1.0V and 1.35V (See Datasheet)", 7 NC

## LT1581CT7-2.5#06PBF
designator U?
10 A, Very Low Dropout Regulator, 1.68 to 6 V Vin, 2.5 V Vout, 7-pin FM (T7-7), 0 to 150 degC, Pb-Free; Manufacturer: Linear Technology; PartNumber: LT1581CT7-2.5#06PBF; Discrete Pass Element: no; Dropout Voltage(V): 0.43; Iout(mA): 10000; Isupply(mA): 10; Number of Outputs: 1; Output Voltage: 2.5 V; Vin Max(V): 6; Vin Min(V): 1.68; DatasheetVersion: Rev. A; PackageVersion: Jun-10; PackageReference: T7-7; PackageDescription: 7-Pin Plastic TO-220 (Straight Lead), Body 10.224 x 4.382 mm, Pitch 1.27 mm; Supplier 1: Digi-Key; Supplier Part Number 1: LT1581CT7-2.5#06PBF-ND; Supplier 2: Newark; Supplier Part Number 2: 72R5768; RoHS: TRUE; Mounting Technology: Through Hole; ComponentLink1Description: Manufacturer URL; ComponentLink1URL: http://www.linear.com/; ComponentLink2Description: Datasheet; ComponentLink2URL: http://cds.linear.com/docs/en/datasheet/158125fa.pdf; ComponentLink3Description: Package Specification; ComponentLink3URL: http://www.linear.com/docs/en/packaging/TO-220_7_05-08-1422_STRAIGHT_LEAD.pdf
footprint LT-T7-7-S_V (FM, 7-Leads, Body 10.55x4.6mm, Pitch 1.27mm)
pins: 1 ADJ (in) "This pin is the negative side of the reference voltage for the device. Transient response can be improved by adding a small bypass capacitor from the ADJUST pin to ground. For fixed voltage devices the ADJUST pin is also (See Datasheet)", 2 GND (power) "For fixed voltage devices this is the bottom of the resistor divider that sets the output voltage.", 3 SENSE (in) "This pin is the positive side of the reference voltage for the device. With this pin it is possible to Kelvin sense the output voltage at the load.", 4 OUT (power) "This is the power output of the device.", 5 VPOWER (power) "This is the collector to the power device of the LT1581. The output load current is supplied through this pin. For the device to regulate, the voltage at this pin must be between 0.1V and 0.7V greater than the output voltage (See Datasheet)", 6 VCONTROL (power) "This pin is the supply pin for the control circuitry of the device. The current flow into this pin will be about 1% of the output current. For the device to regulate, the voltage at this pin must be between 1.0V and 1.35V (See Datasheet)", 7 NC

## LT1581CT7-2.5#PBF
designator U?
10 A, Very Low Dropout Regulator, 1.68 to 6 V Vin, 2.5 V Vout, 7-pin FM (T7-7), 0 to 150 degC, Pb-Free; Manufacturer: Linear Technology; PartNumber: LT1581CT7-2.5#PBF; Discrete Pass Element: no; Dropout Voltage(V): 0.43; Iout(mA): 10000; Isupply(mA): 10; Number of Outputs: 1; Output Voltage: 2.5 V; Vin Max(V): 6; Vin Min(V): 1.68; DatasheetVersion: Rev. A; PackageVersion: Jun-10; PackageReference: T7-7; PackageDescription: 7-Pin Plastic TO-220 (Straight Lead), Body 10.224 x 4.382 mm, Pitch 1.27 mm; Supplier 1: Digi-Key; Supplier Part Number 1: LT1581CT7-2.5#PBF-ND; Supplier 2: Newark; Supplier Part Number 2: 57M5084; RoHS: TRUE; Mounting Technology: Through Hole; ComponentLink1Description: Manufacturer URL; ComponentLink1URL: http://www.linear.com/; ComponentLink2Description: Datasheet; ComponentLink2URL: http://cds.linear.com/docs/en/datasheet/158125fa.pdf; ComponentLink3Description: Package Specification; ComponentLink3URL: http://www.linear.com/docs/en/packaging/TO-220_7_05-08-1422_STRAIGHT_LEAD.pdf
footprint LT-T7-7-S_V (FM, 7-Leads, Body 10.55x4.6mm, Pitch 1.27mm)
pins: 1 ADJ (in) "This pin is the negative side of the reference voltage for the device. Transient response can be improved by adding a small bypass capacitor from the ADJUST pin to ground. For fixed voltage devices the ADJUST pin is also (See Datasheet)", 2 GND (power) "For fixed voltage devices this is the bottom of the resistor divider that sets the output voltage.", 3 SENSE (in) "This pin is the positive side of the reference voltage for the device. With this pin it is possible to Kelvin sense the output voltage at the load.", 4 OUT (power) "This is the power output of the device.", 5 VPOWER (power) "This is the collector to the power device of the LT1581. The output load current is supplied through this pin. For the device to regulate, the voltage at this pin must be between 0.1V and 0.7V greater than the output voltage (See Datasheet)", 6 VCONTROL (power) "This pin is the supply pin for the control circuitry of the device. The current flow into this pin will be about 1% of the output current. For the device to regulate, the voltage at this pin must be between 1.0V and 1.35V (See Datasheet)", 7 NC

## LT1584CT
designator U?
7 A Low Dropout Fast Response Positive Regulator, 2.5 to 7 V Vin, Adjustable Vout, 3-pin FM (T-3), 0 to 150 degC; Manufacturer: Linear Technology; PartNumber: LT1584CT; Discrete Pass Element: no; Dropout Voltage(V): 1.25; Iout(mA): 7000; Isupply(mA): 8; Number of Outputs: 1; Output Voltage: Adj; Vin Max(V): 7; Vin Min(V): 2.5; Vout Max(V): 5.5; DatasheetVersion: Rev. A; PackageVersion: Jun-10; PackageReference: T-3; PackageDescription: 3-Pin Plastic TO-220, Body 10.2235 x 4.3815 mm, Pitch 2.54 mm; Supplier 1: Digi-Key; Supplier Part Number 1: LT1584CT-ND; Supplier 2: Newark; Supplier Part Number 2: 57M5089; RoHS: FALSE; Vout Min(V): 1.25; Mounting Technology: Through Hole; ComponentLink1Description: Manufacturer URL; ComponentLink1URL: http://www.linear.com/; ComponentLink2Description: Datasheet; ComponentLink2URL: http://cds.linear.com/docs/en/datasheet/158457a.pdf; ComponentLink3Description: Package Specification; ComponentLink3URL: http://cds.linear.com/docs/en/packaging/TO-220_3_05-08-1420.pdf
footprint LT-T-3 (T, 3-Leads, Body 10.55x4.6mm, Pitch 2.54mm)
pins: 1 ADJ (in), 2 VOUT (power), 3 VIN (power)

## LT1584CT#PBF
designator U?
7 A Low Dropout Fast Response Positive Regulator, 2.5 to 7 V Vin, Adjustable Vout, 3-pin FM (T-3), 0 to 150 degC, Pb-Free; Manufacturer: Linear Technology; PartNumber: LT1584CT#PBF; Discrete Pass Element: no; Dropout Voltage(V): 1.25; Iout(mA): 7000; Isupply(mA): 8; Number of Outputs: 1; Output Voltage: Adj; Vin Max(V): 7; Vin Min(V): 2.5; Vout Max(V): 5.5; DatasheetVersion: Rev. A; PackageVersion: Jun-10; PackageReference: T-3; PackageDescription: 3-Pin Plastic TO-220, Body 10.2235 x 4.3815 mm, Pitch 2.54 mm; Supplier 1: Digi-Key; Supplier Part Number 1: LT1584CT#PBF-ND; Supplier 2: Farnell; Supplier Part Number 2: 1273600; Supplier 3: Newark; Supplier Part Number 3: 57M5098; RoHS: TRUE; Vout Min(V): 1.25; Mounting Technology: Through Hole; ComponentLink1Description: Manufacturer URL; ComponentLink1URL: http://www.linear.com/; ComponentLink2Description: Datasheet; ComponentLink2URL: http://cds.linear.com/docs/en/datasheet/158457a.pdf; ComponentLink3Description: Package Specification; ComponentLink3URL: http://cds.linear.com/docs/en/packaging/TO-220_3_05-08-1420.pdf
footprint LT-T-3 (T, 3-Leads, Body 10.55x4.6mm, Pitch 2.54mm)
pins: 1 ADJ (in), 2 VOUT (power), 3 VIN (power)

## LT1584CT-3.3
designator U?
7 A Low Dropout Fast Response Positive Regulator, 2.5 to 7 V Vin, 3.3 V Vout, 3-pin FM (T-3), 0 to 150 degC; Manufacturer: Linear Technology; PartNumber: LT1584CT-3.3; Discrete Pass Element: no; Dropout Voltage(V): 1.25; Iout(mA): 7000; Isupply(mA): 8; Number of Outputs: 1; Output Voltage: 3.3 V; Vin Max(V): 7; Vin Min(V): 2.5; DatasheetVersion: Rev. A; PackageVersion: Jun-10; PackageReference: T-3; PackageDescription: 3-Pin Plastic TO-220, Body 10.2235 x 4.3815 mm, Pitch 2.54 mm; Supplier 1: Digi-Key; Supplier Part Number 1: LT1584CT-3.3-ND; Supplier 2: Newark; Supplier Part Number 2: 57M5090; RoHS: FALSE; Mounting Technology: Through Hole; ComponentLink1Description: Manufacturer URL; ComponentLink1URL: http://www.linear.com/; ComponentLink2Description: Datasheet; ComponentLink2URL: http://cds.linear.com/docs/en/datasheet/158457a.pdf; ComponentLink3Description: Package Specification; ComponentLink3URL: http://cds.linear.com/docs/en/packaging/TO-220_3_05-08-1420.pdf
footprint LT-T-3 (T, 3-Leads, Body 10.55x4.6mm, Pitch 2.54mm)
pins: 1 GND (power), 2 VOUT (power), 3 VIN (power)

## LT1584CT-3.3#PBF
designator U?
7 A Low Dropout Fast Response Positive Regulator, 2.5 to 7 V Vin, 3.3 V Vout, 3-pin FM (T-3), 0 to 150 degC, Pb-Free; Manufacturer: Linear Technology; PartNumber: LT1584CT-3.3#PBF; Discrete Pass Element: no; Dropout Voltage(V): 1.25; Iout(mA): 7000; Isupply(mA): 8; Number of Outputs: 1; Output Voltage: 3.3 V; Vin Max(V): 7; Vin Min(V): 2.5; DatasheetVersion: Rev. A; PackageVersion: Jun-10; PackageReference: T-3; PackageDescription: 3-Pin Plastic TO-220, Body 10.2235 x 4.3815 mm, Pitch 2.54 mm; Supplier 1: Digi-Key; Supplier Part Number 1: LT1584CT-3.3#PBF-ND; Supplier 2: Farnell; Supplier Part Number 2: 1273601; Supplier 3: Newark; Supplier Part Number 3: 57M5091; RoHS: TRUE; Mounting Technology: Through Hole; ComponentLink1Description: Manufacturer URL; ComponentLink1URL: http://www.linear.com/; ComponentLink2Description: Datasheet; ComponentLink2URL: http://cds.linear.com/docs/en/datasheet/158457a.pdf; ComponentLink3Description: Package Specification; ComponentLink3URL: http://cds.linear.com/docs/en/packaging/TO-220_3_05-08-1420.pdf
footprint LT-T-3 (T, 3-Leads, Body 10.55x4.6mm, Pitch 2.54mm)
pins: 1 GND (power), 2 VOUT (power), 3 VIN (power)